# Altium footprint library con-chipcard-iso7816.PCBLIB: 3 footprints
Each footprint in its own frame and in the unit in brackets; x right, y up, seen from the top. Pads: shape width x height; smd on the part's side, far side on the other; paste and mask are expansions set on the pad; w line width, h text height; cw(c..) or ccw(c..) is an arc to the next point about the centre after c.
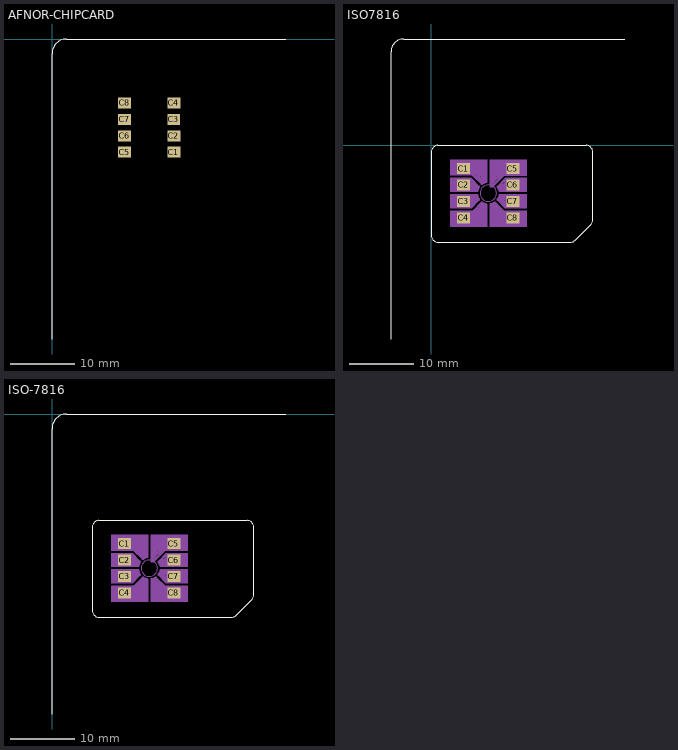
[diagram p0: the footprints below, top view; thin cyan lines are the x and y axes]

## AFNOR-CHIPCARD [mm]
pads (8):
  rect 2x1.7 smd: C1(18.872,-17.541) C2(18.871,-15) C3(18.868,-12.457) C4(18.871,-9.92) C5(11.251,-17.542) C6(11.252,-15) C7(11.25,-12.459) C8(11.252,-9.92)
Top Overlay:
  lines w0: 0,-46.5 0,-2.25 cw(c2.25,-2.25) 2.25,0 36.25,0

## ISO7816 [mm]
pads (8):
  rect 2x1.7 smd: C1(4.999,-3.599) C2(4.999,-6.138) C3(4.999,-8.683) C4(4.999,-11.222) C5(12.622,-3.6) C6(12.622,-6.14) C7(12.622,-8.68) C8(12.622,-11.222)
Top Overlay:
  lines w0: -6.25,-30 -6.25,14.48 cw(c-4.25,14.48) -4.25,16.48 30,16.48 ; 0,-14 0,-1 cw(c1,-1) 1,0 24,0 cw(c24,-1) 25,-1 25,-11.6 cw(c24,-11.6) 24.8,-12.2 22.3,-14.7 cw(c21.575,-14) 21.7,-15 1,-15 cw(c1,-14) 0,-14
Mechanical 16:
  circle w0: c8.826,-7.404 r1.27
  rectangle: 2.87,-7.252 6.223,-5.016
  rectangle: 11.43,-7.252 14.783,-5.016
  rectangle: 2.87,-9.792 6.223,-7.556
  rectangle: 11.43,-9.792 14.783,-7.556
  rectangle: 2.87,-4.699 8.674,-2.159
  rectangle: 2.87,-12.636 8.674,-10.096
  rectangle: 8.979,-12.636 14.783,-10.096
  rectangle: 8.979,-4.712 14.783,-2.172
  lines w0.406: 6.109,-8.585 6.439,-8.255 6.439,-8.23 ; 6.109,-7.048 7.087,-7.048 7.163,-6.731 7.328,-6.413 6.134,-5.22 ; 6.109,-5.74 6.921,-6.553 6.921,-6.667 6.121,-6.667 ; 6.134,-9.588 7.328,-8.395 7.175,-8.077 7.087,-7.76 6.172,-7.76 ; 6.147,-9.055 6.972,-8.23 6.871,-8.128 6.147,-8.128 ; 6.185,-6.286 6.388,-6.49 ; 6.477,-4.559 7.836,-5.918 8.141,-5.753 8.471,-5.651 8.471,-4.763 ; 6.502,-10.236 7.849,-8.89 8.141,-9.055 8.471,-9.157 8.471,-10.109 ; 7.048,-10.211 8.014,-9.246 8.103,-9.335 8.103,-10.135 ; 7.087,-4.648 7.988,-5.55 8.09,-5.448 8.09,-4.699 ; 7.595,-4.623 7.988,-5.016 ; 7.607,-10.185 8.001,-9.792 ; 9.182,-10.096 9.182,-9.157 9.5,-9.055 9.804,-8.89 11.163,-10.249 ; 9.182,-4.661 9.182,-6.35 9.373,-6.35 11.163,-4.559 ; 9.347,-5.842 9.563,-5.626 ; 9.563,-10.122 9.563,-9.347 9.652,-9.258 10.541,-10.147 ; 9.563,-4.661 9.563,-5.626 ; 9.665,-9.804 10.071,-10.211 ; 9.677,-4.978 10.046,-4.61 ; 10.604,-4.585 9.563,-5.626 ; 11.189,-6.528 11.443,-6.274 ; 11.239,-8.255 11.532,-8.547 ; 11.43,-7.76 10.579,-7.76 10.49,-8.064 10.312,-8.382 11.519,-9.588 ; 11.43,-7.048 10.579,-7.048 10.465,-6.693 10.312,-6.426 11.519,-5.22 ; 11.468,-8.141 10.77,-8.141 10.681,-8.23 11.506,-9.055 ; 11.468,-6.667 10.795,-6.667 10.693,-6.566 11.532,-5.728
  text "VCC" at -0.316,-4.1 h1.57
  text "RST" at -0.316,-6.6 h1.57
  text "CLK" at -0.316,-9.2 h1.57
  text "NC" at -0.316,-11.7 h1.57
  text "I/O" at 15.289,-9.2 h1.57
  text "GND" at 15.289,-4.1 h1.57
  text "NC" at 15.289,-11.7 h1.57
  text "NC" at 15.289,-6.6 h1.57

## ISO-7816 [mm]
pads (8):
  rect 2x1.7 smd: C1(11.249,-20.099) C2(11.249,-22.638) C3(11.249,-25.183) C4(11.249,-27.722) C5(18.872,-20.1) C6(18.872,-22.64) C7(18.872,-25.18) C8(18.872,-27.722)
Top Overlay:
  lines w0: 0,-46.5 0,-2.25 cw(c2.25,-2.25) 2.25,0 36.25,0 ; 6.25,-30.5 6.25,-17.5 cw(c7.25,-17.5) 7.25,-16.5 30.25,-16.5 cw(c30.25,-17.5) 31.25,-17.5 31.25,-28.1 cw(c30.25,-28.1) 31.05,-28.7 28.55,-31.2 cw(c27.825,-30.5) 27.95,-31.5 7.25,-31.5 cw(c7.25,-30.5) 6.25,-30.5
Mechanical 16:
  circle w0: c15.076,-23.904 r1.27
  rectangle: 9.12,-23.752 12.473,-21.517
  rectangle: 17.68,-23.752 21.033,-21.517
  rectangle: 9.12,-26.292 12.473,-24.057
  rectangle: 17.68,-26.292 21.033,-24.057
  rectangle: 9.12,-21.199 14.924,-18.659
  rectangle: 9.12,-29.137 14.924,-26.597
  rectangle: 15.229,-29.137 21.033,-26.597
  rectangle: 15.229,-21.212 21.033,-18.672
  lines w0.406: 12.359,-25.085 12.689,-24.755 12.689,-24.73 ; 12.359,-23.549 13.337,-23.549 13.413,-23.231 13.578,-22.914 12.384,-21.72 ; 12.359,-22.24 13.171,-23.053 13.171,-23.168 12.371,-23.168 ; 12.384,-26.089 13.578,-24.895 13.425,-24.577 13.337,-24.26 12.422,-24.26 ; 12.397,-25.555 13.222,-24.73 13.121,-24.628 12.397,-24.628 ; 12.435,-22.787 12.638,-22.99 ; 12.727,-21.059 14.086,-22.418 14.391,-22.253 14.721,-22.152 14.721,-21.263 ; 12.752,-26.736 14.099,-25.39 14.391,-25.555 14.721,-25.657 14.721,-26.609 ; 13.298,-26.711 14.264,-25.746 14.353,-25.835 14.353,-26.635 ; 13.337,-21.148 14.238,-22.05 14.34,-21.948 14.34,-21.199 ; 13.845,-21.123 14.238,-21.517 ; 13.857,-26.685 14.251,-26.292 ; 15.432,-26.597 15.432,-25.657 15.75,-25.555 16.054,-25.39 17.413,-26.749 ; 15.432,-21.161 15.432,-22.85 15.623,-22.85 17.413,-21.059 ; 15.597,-22.342 15.813,-22.126 ; 15.813,-26.622 15.813,-25.847 15.902,-25.758 16.791,-26.647 ; 15.813,-21.161 15.813,-22.126 ; 15.915,-26.304 16.321,-26.711 ; 15.927,-21.478 16.296,-21.11 ; 16.854,-21.085 15.813,-22.126 ; 17.439,-23.028 17.693,-22.774 ; 17.489,-24.755 17.782,-25.047 ; 17.68,-24.26 16.829,-24.26 16.74,-24.565 16.562,-24.882 17.769,-26.089 ; 17.68,-23.549 16.829,-23.549 16.715,-23.193 16.562,-22.926 17.769,-21.72 ; 17.718,-24.641 17.02,-24.641 16.931,-24.73 17.756,-25.555 ; 17.718,-23.168 17.045,-23.168 16.943,-23.066 17.782,-22.228
  text "VCC" at 5.934,-20.6 h1.57
  text "RST" at 5.934,-23.1 h1.57
  text "CLK" at 5.934,-25.7 h1.57
  text "NC" at 5.934,-28.2 h1.57
  text "I/O" at 21.539,-25.7 h1.57
  text "GND" at 21.539,-20.6 h1.57
  text "NC" at 21.539,-28.2 h1.57
  text "NC" at 21.539,-23.1 h1.57